# EAGLE library part 219-03* (library dpst)
Surface Mount DIP Switch Series 219 SMT CTS Electronic Components Sourc: www.ctscorp.com
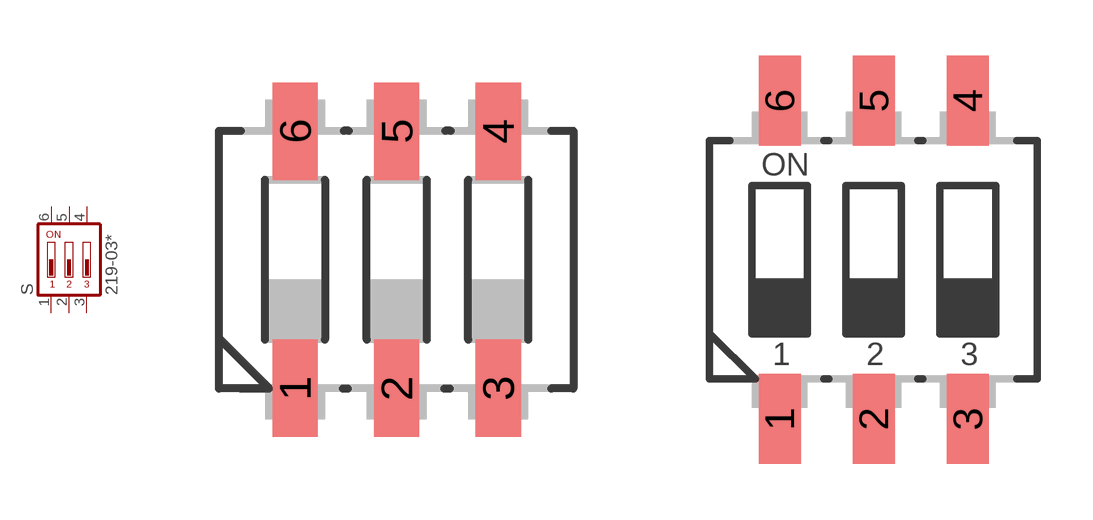
[diagram p58: symbol with the pads of CTS-219-03J; footprints CTS-219-03J, CTS-219-03]

Designator prefix S

## 219-03J (OC_FARNELL: unknown; OC_NEWARK: unknown)  [CTS-219-03J]
1  1  pas
2  2  pas
3  3  pas
4  4  pas
5  5  pas
6  6  pas

## 219-03 (OC_FARNELL: unknown; OC_NEWARK: unknown)  [CTS-219-03]
Pads as for CTS-219-03J

## Footprint CTS-219-03J (pad centres in mm)
Surface Mount DIP Switch Series 219 SMT "J" Bend CTS Electronic Components Sourc: www.ctscorp.com
smd 1.13 x 2.44: 1 -2.54,-3.215; 2 0,-3.215; 3 2.54,-3.215; 4 2.54,3.215; 5 0,3.215; 6 -2.54,3.215

## Footprint CTS-219-03 (pad centres in mm)
Surface Mount DIP Switch Series 219 SMT CTS Electronic Components Sourc: www.ctscorp.com
smd 1.13 x 2.44: 1 -2.54,-4.3; 2 0,-4.3; 3 2.54,-4.3; 4 2.54,4.3; 5 0,4.3; 6 -2.54,4.3